# Altium footprint library Hsiao_AltiumDesigner.PcbLib: 3 footprints
Each footprint in its own frame and in the unit in brackets; x right, y up, seen from the top. Pads: shape width x height; smd on the part's side, far side on the other; paste and mask are expansions set on the pad; w line width, h text height; cw(c..) or ccw(c..) is an arc to the next point about the centre after c.
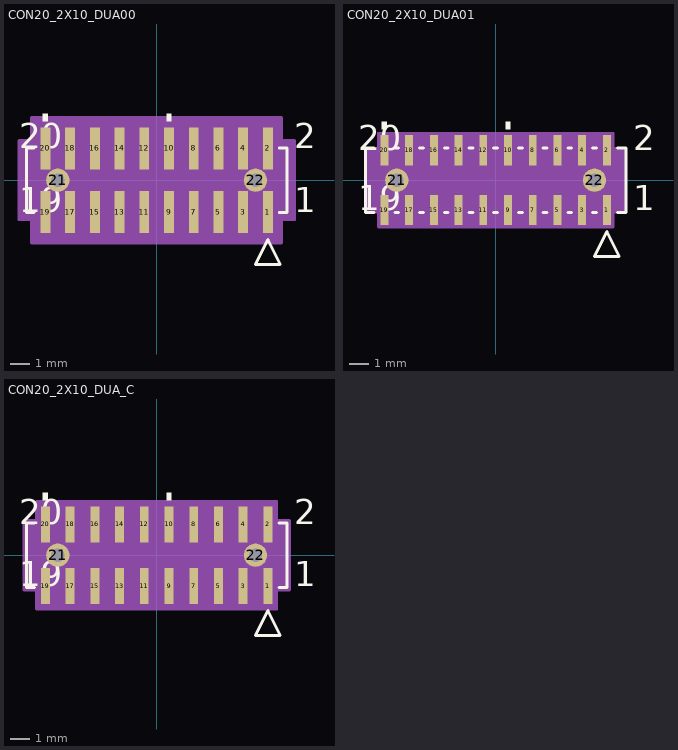
[diagram p0: the footprints below, top view; thin cyan lines are the x and y axes]

## CON20_2X10_DUA00 [mil]
pads (22):
  rect 20x85 smd paste+0 mask+0: 1(225,-64.5) 2(225,64.5) 3(175,-64.5) 4(175,64.5) 5(125,-64.5) 6(125,64.5) 7(75,-64.5) 8(75,64.5) 9(25,-64.5) 10(25,64.5) 11(-25,-64.5) 12(-25,64.5) 13(-75,-64.5) 14(-75,64.5) 15(-125,-64.5) 16(-125,64.5) 17(-175,-64.5) 18(-175,64.5) 19(-225,-64.5) 20(-225,64.5)
  round 47 / inner round 60 / far side round 47 hole 27: 21(-200,0) 22(200,0)
Top Overlay:
  region: 30,134.5 20,134.5 20,119.5 30,119.5
  region: -220,134.5 -230,134.5 -230,119.5 -220,119.5
  lines w6: -248.1,-65 -263.5,-65 -263.5,65 -248.1,65 ; 248.1,-65 263.5,-65 263.5,65 248.1,65 ; 200,-170.1 225,-120.1 250,-170.1 200,-170.1
  text "2" at 278.5,64.5 h50
  text "1" at 278.5,-64.5 h50
  text "20" at -278.5,64.5 h50
  text "19" at -278.5,-64.5 h50
Mechanical 13:
  lines w1: -258.5,-60 -258.5,60 258.5,60 258.5,-60 -258.5,-60 ; 200,-170.1 225,-120.1 250,-170.1 200,-170.1
  text "2" at 278.5,64.5 h50
  text "1" at 278.5,-64.5 h50
  text "20" at -278.5,64.5 h50
  text "19" at -278.5,-64.5 h50
Mechanical 15:
  region: -253,-80 -278.5,-80 -278.5,80 -253,80 -253,127 253,127 253,80 278.5,80 278.5,-80 253,-80 253,-127 -253,-127
  region: 258.5,-60 -258.5,-60 -258.5,60 258.5,60
  lines w6: -278.5,-80 -278.5,80 -253,80 -253,127 253,127 253,80 278.5,80 278.5,-80 253,-80 253,-127 -253,-127 -253,-80 -278.5,-80
3D body: height 10, standoff 0, extent 0,0 10,10

## CON20_2X10_DUA01 [mil]
pads (22):
  rect 16x61 smd paste+0 mask+0: 1(225,-60.5) 2(225,60.5) 3(175,-60.5) 4(175,60.5) 5(125,-60.5) 6(125,60.5) 7(75,-60.5) 8(75,60.5) 9(25,-60.5) 10(25,60.5) 11(-25,-60.5) 12(-25,60.5) 13(-75,-60.5) 14(-75,60.5) 15(-125,-60.5) 16(-125,60.5) 17(-175,-60.5) 18(-175,60.5) 19(-225,-60.5) 20(-225,60.5)
  round 47 / inner round 60 / far side round 47 hole 27: 21(-200,0) 22(200,0)
Top Overlay:
  region: 30,118.5 20,118.5 20,103.5 30,103.5
  region: -220,118.5 -230,118.5 -230,103.5 -220,103.5
  lines w6: -246.1,-65 -263.5,-65 -263.5,65 -246.1,65 ; -203.9,-65 -196.1,-65 ; -203.9,65 -196.1,65 ; -153.9,-65 -146.1,-65 ; -153.9,65 -146.1,65 ; -103.9,-65 -96.1,-65 ; -103.9,65 -96.1,65 ; -53.9,-65 -46.1,-65 ; -53.9,65 -46.1,65 ; -3.9,-65 3.9,-65 ; -3.9,65 3.9,65 ; 46.1,-65 53.9,-65 ; 46.1,65 53.9,65 ; 96.1,-65 103.9,-65 ; 96.1,65 103.9,65 ; 146.1,-65 153.9,-65 ; 146.1,65 153.9,65 ; 196.1,-65 203.9,-65 ; 196.1,65 203.9,65 ; 246.1,-65 263.5,-65 263.5,65 246.1,65 ; 200,-154.1 225,-104.1 250,-154.1 200,-154.1
  text "2" at 278.5,60.5 h50
  text "1" at 278.5,-60.5 h50
  text "20" at -278.5,60.5 h50
  text "19" at -278.5,-60.5 h50
Mechanical 13:
  lines w1: -258.5,-60 -258.5,60 258.5,60 258.5,-60 -258.5,-60 ; 200,-154.1 225,-104.1 250,-154.1 200,-154.1
  text "2" at 278.5,60.5 h50
  text "1" at 278.5,-60.5 h50
  text "20" at -278.5,60.5 h50
  text "19" at -278.5,-60.5 h50
Mechanical 15:
  region: -237,-64 -262.5,-64 -262.5,64 -237,64 -237,95 237,95 237,64 262.5,64 262.5,-64 237,-64 237,-95 -237,-95
  region: 258.5,-60 -258.5,-60 -258.5,60 258.5,60
  lines w6: -262.5,-64 -262.5,64 -237,64 -237,95 237,95 237,64 262.5,64 262.5,-64 237,-64 237,-95 -237,-95 -237,-64 -262.5,-64
3D body: height 10, standoff 0, extent 0,0 10,10

## CON20_2X10_DUA_C [mil]
pads (22):
  rect 18x73 smd paste+0 mask+0: 1(225,-62.5) 2(225,62.5) 3(175,-62.5) 4(175,62.5) 5(125,-62.5) 6(125,62.5) 7(75,-62.5) 8(75,62.5) 9(25,-62.5) 10(25,62.5) 11(-25,-62.5) 12(-25,62.5) 13(-75,-62.5) 14(-75,62.5) 15(-125,-62.5) 16(-125,62.5) 17(-175,-62.5) 18(-175,62.5) 19(-225,-62.5) 20(-225,62.5)
  round 47 / inner round 60 / far side round 47 hole 27: 21(-200,0) 22(200,0)
Top Overlay:
  region: 30,126.5 20,126.5 20,111.5 30,111.5
  region: -220,126.5 -230,126.5 -230,111.5 -220,111.5
  lines w6: -247.1,-65 -263.5,-65 -263.5,65 -247.1,65 ; 247.1,-65 263.5,-65 263.5,65 247.1,65 ; 200,-162.1 225,-112.1 250,-162.1 200,-162.1
  text "2" at 278.5,62.5 h50
  text "1" at 278.5,-62.5 h50
  text "20" at -278.5,62.5 h50
  text "19" at -278.5,-62.5 h50
Mechanical 13:
  lines w1: -258.5,-60 -258.5,60 258.5,60 258.5,-60 -258.5,-60 ; 200,-162.1 225,-112.1 250,-162.1 200,-162.1
  text "2" at 278.5,62.5 h50
  text "1" at 278.5,-62.5 h50
  text "20" at -278.5,62.5 h50
  text "19" at -278.5,-62.5 h50
Mechanical 15:
  region: -243,-70 -268.5,-70 -268.5,70 -243,70 -243,109 243,109 243,70 268.5,70 268.5,-70 243,-70 243,-109 -243,-109
  region: 258.5,-60 -258.5,-60 -258.5,60 258.5,60
  lines w6: -268.5,-70 -268.5,70 -243,70 -243,109 243,109 243,70 268.5,70 268.5,-70 243,-70 243,-109 -243,-109 -243,-70 -268.5,-70
3D body: height 10, standoff 0, extent 0,0 10,10